# Altium footprint library 14-LGA IMU.PcbLib: 1 footprints
Each footprint in its own frame and in the unit in brackets; x right, y up, seen from the top. Pads: shape width x height; smd on the part's side, far side on the other; paste and mask are expansions set on the pad; w line width, h text height; cw(c..) or ccw(c..) is an arc to the next point about the centre after c.
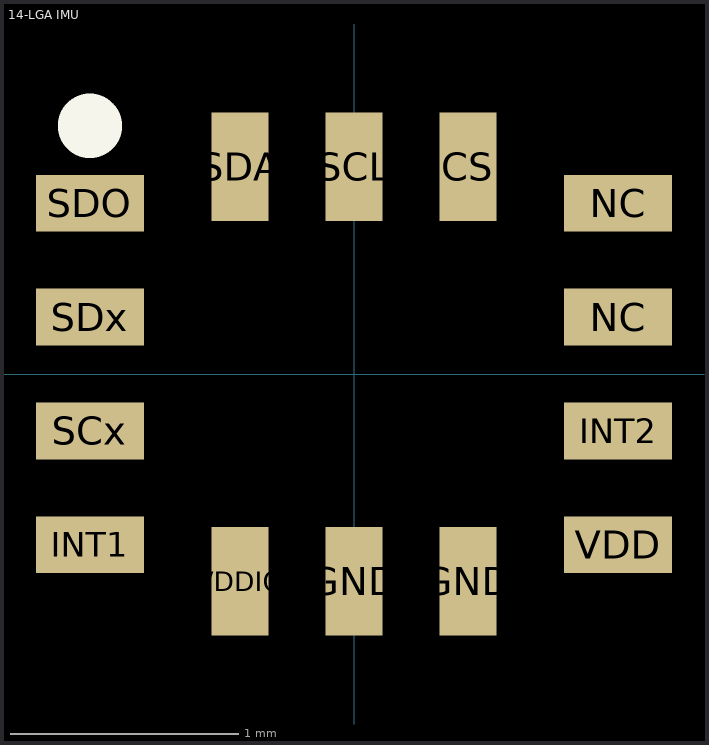
[diagram p0: the footprint, top view; thin cyan lines are the x and y axes]

## 14-LGA IMU [mm] "Accelerometer, Gyroscope, Temperature, 6 Axis Sensor I²C, SPI Output"
height 0.86
pads (14):
  rect 0.25x0.475 smd mask+0.05: CS(0.5,0.91) GND(0,-0.91) GND(0.5,-0.91) SCL(0,0.91) SDA(-0.5,0.91) VDDIO(-0.5,-0.91)
  rect 0.475x0.25 smd mask+0.05: INT1(-1.16,-0.75) INT2(1.16,-0.25) NC(1.16,0.25) NC(1.16,0.75) SCx(-1.16,-0.25) SDO(-1.16,0.75) SDx(-1.16,0.25) VDD(1.16,-0.75)
Top Overlay:
  circle w0.254: c-1.16,1.09 r0.014
3D body: height 0.86, standoff 0.3, extent -1.5,-1.25 1.5,1.25